# Altium footprint library inductors.PcbLib: 4 footprints
Each footprint in its own frame and in the unit in brackets; x right, y up, seen from the top. Pads: shape width x height; smd on the part's side, far side on the other; paste and mask are expansions set on the pad; w line width, h text height; cw(c..) or ccw(c..) is an arc to the next point about the centre after c.
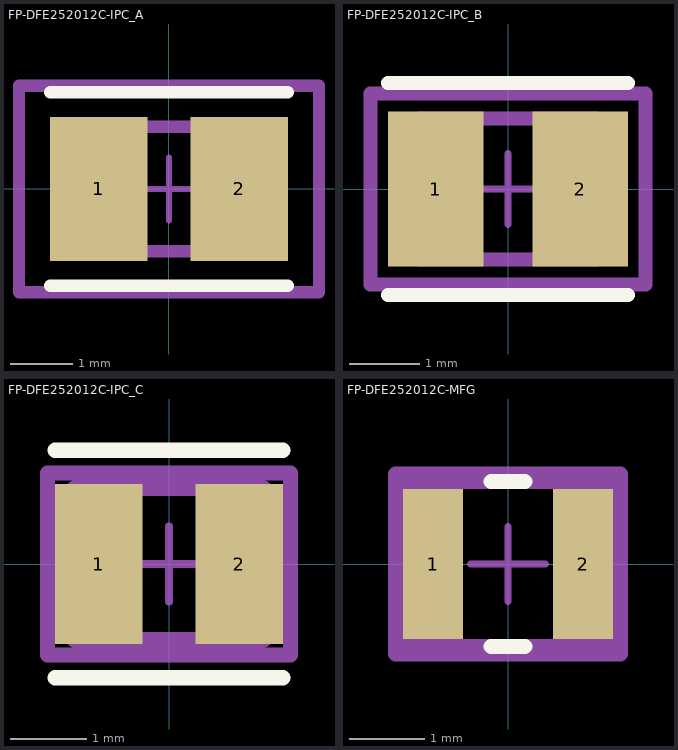
[diagram p0: the footprints below, top view; thin cyan lines are the x and y axes]

## FP-DFE252012C-IPC_A [mm]
pads (2):
  rect 1.555x2.306 smd paste+0 mask+0: 1(-1.126,0) 2(1.126,0)
Top Overlay:
  lines w0.2: -1.903,-1.553 1.903,-1.553 ; -1.903,1.553 1.903,1.553
Top Assembly:
  lines w0.2: -2.403,-1.653 -2.403,1.653 2.403,1.653 2.403,-1.653 -2.403,-1.653
Top 3D Body:
  lines w0.2: -1.25,-1 -1.25,1 1.25,1 1.25,-1 -1.25,-1
Top Courtyard:
  lines w0.2: -2.403,-1.653 -2.403,1.653 2.403,1.653 2.403,-1.653 -2.403,-1.653
Top Component Center:
  lines w0.1: -0.5,0 0.5,0 ; 0,-0.5 0,0.5
3D body "Ind_Murata_DFE252012F-4R7M=P2_eec.STEP": height 0.25, standoff 0, extent -2.403,-1.653 2.403,1.653

## FP-DFE252012C-IPC_B [mm]
pads (2):
  rect 1.355x2.206 smd paste+0 mask+0: 1(-1.026,0) 2(1.026,0)
Top Overlay:
  lines w0.2: -1.703,-1.503 1.703,-1.503 ; -1.703,1.503 1.703,1.503
Top Assembly:
  lines w0.2: -1.953,-1.353 -1.953,1.353 1.953,1.353 1.953,-1.353 -1.953,-1.353
Top 3D Body:
  lines w0.2: -1.25,-1 -1.25,1 1.25,1 1.25,-1 -1.25,-1
Top Courtyard:
  lines w0.2: -1.953,-1.353 -1.953,1.353 1.953,1.353 1.953,-1.353 -1.953,-1.353
Top Component Center:
  lines w0.1: -0.5,0 0.5,0 ; 0,-0.5 0,0.5
3D body "Ind_Murata_DFE252012F-4R7M=P2_eec.STEP": height 0.25, standoff 0, extent -1.953,-1.353 1.953,1.353

## FP-DFE252012C-IPC_C [mm]
pads (2):
  rect 1.155x2.106 smd paste+0 mask+0: 1(-0.926,0) 2(0.926,0)
Top Overlay:
  lines w0.2: -1.503,-1.5 1.503,-1.5 ; -1.503,1.5 1.503,1.5
Top Assembly:
  lines w0.2: -1.603,-1.2 -1.603,1.2 1.603,1.2 1.603,-1.2 -1.603,-1.2
Top 3D Body:
  lines w0.2: -1.25,-1 -1.25,1 1.25,1 1.25,-1 -1.25,-1
Top Courtyard:
  lines w0.2: -1.603,-1.2 -1.603,1.2 1.603,1.2 1.603,-1.2 -1.603,-1.2
Top Component Center:
  lines w0.1: -0.5,0 0.5,0 ; 0,-0.5 0,0.5
3D body "Ind_Murata_DFE252012F-4R7M=P2_eec.STEP": height 0.25, standoff 0, extent -1.603,-1.2 1.603,1.2

## FP-DFE252012C-MFG [mm]
pads (2):
  rect 0.8x2 smd paste+0 mask+0: 1(-1,0) 2(1,0)
Top Overlay:
  lines w0.2: -0.225,-1.1 0.225,-1.1 ; -0.225,1.1 0.225,1.1
Top Assembly:
  lines w0.2: -1.5,-1.2 1.5,-1.2 1.5,1.2 -1.5,1.2 -1.5,-1.2
Top 3D Body:
  lines w0.2: -1.35,-1.1 1.35,-1.1 1.35,1.1 -1.35,1.1 -1.35,-1.1
Top Courtyard:
  lines w0.2: -1.5,-1.2 1.5,-1.2 1.5,1.2 -1.5,1.2 -1.5,-1.2
Top Component Center:
  lines w0.1: -0.5,0 0.5,0 ; 0,-0.5 0,0.5
3D body "Ind_Murata_DFE252012F-4R7M=P2_eec.STEP": height 0.25, standoff 0, extent -1.5,-1.2 1.5,1.2